# Altium schematic symbol library NXRT15XH103FA1B020.SchLib: 1 symbol
Pins are listed as number, name and electrical type; pins without a type are passive.

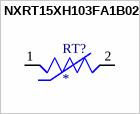
[diagram p0: symbol NXRT15XH103FA1B020]

## NXRT15XH103FA1B020
designator RT?
THERMISTOR NTC 10KOHM 3380K BEAD; MP: NXRT15XH103FA1B020; MF: Murata; Price: None; SnapEDA_Link: https://www.snapeda.com/parts/NXRT15XH103FA1B020/Murata/view-part/1313844/?ref=snap; Arrow_Electronics-Purchase-URL: https://snapeda.com/shop?store=Arrow+Electronics&id=1313844; Package: RADIAL-2 Murata; DigiKey-Purchase-URL: https://snapeda.com/shop?store=DigiKey&id=1313844; Availability: Good; Value: *; Mouser-Purchase-URL: https://snapeda.com/shop?store=Mouser&id=1313844
footprint THERM_NXRT15XH103FA1B020
pins: 1, 2